# EAGLE library part FM24W256-G (library SamacSys_Parts)
Cypress Semiconductor FM24W256-G Serial-2 Wire, Serial-I2C FRAM Memory, 256kbit, 2.7 5.5 V 8-Pin SOIC Source: Datasheet <https://datasheet.datasheetarchive.com/originals/distributors/Datasheets-DGA23/1495601.pdf>
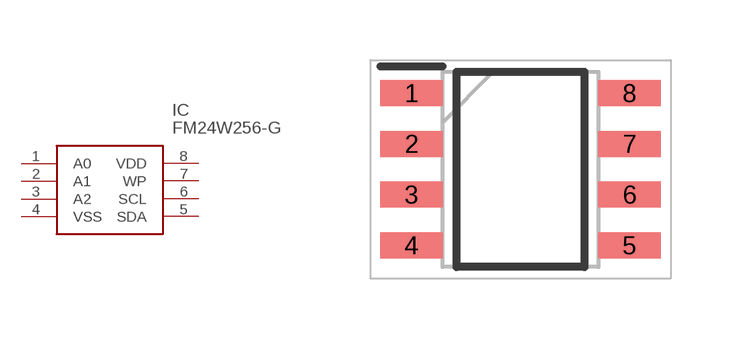
[diagram p148: symbol with the pads of SOIC127P602X173-8N; footprint SOIC127P602X173-8N]

Designator prefix IC

## FM24W256-G (DESCRIPTION: Cypress Semiconductor FM24W256-G Serial-2 Wire, Serial-I2C FRAM Memory, 256kbit, 2.7 5.5 V 8-Pin SOIC; HEIGHT: 1.727mm; MANUFACTURER_NAME: Cypress Semiconductor; MANUFACTURER_PART_NUMBER: FM24W256-G; MOUSER_PART_NUMBER: 877-FM24W256-G; MOUSER_PRICE-STOCK: https://www.mouser.co.uk/ProductDetail/Cypress-Semiconductor/FM24W256-G?qs=pA5MXup5wxHC8KXM4HC67A%3D%3D)  [SOIC127P602X173-8N]
1  A0
2  A1
3  A2
4  VSS
5  SDA
6  SCL
7  WP
8  VDD

## Footprint SOIC127P602X173-8N (pad centres in mm)
8-pin SOIC (150 mils) Package Outline
smd 1.551 x 0.65: 1 -2.725,1.905; 2 -2.725,0.635; 3 -2.725,-0.635; 4 -2.725,-1.905; 5 2.725,-1.905; 6 2.725,-0.635; 7 2.725,0.635; 8 2.725,1.905